# EAGLE library part PA6H_GPS (library WCSMain)
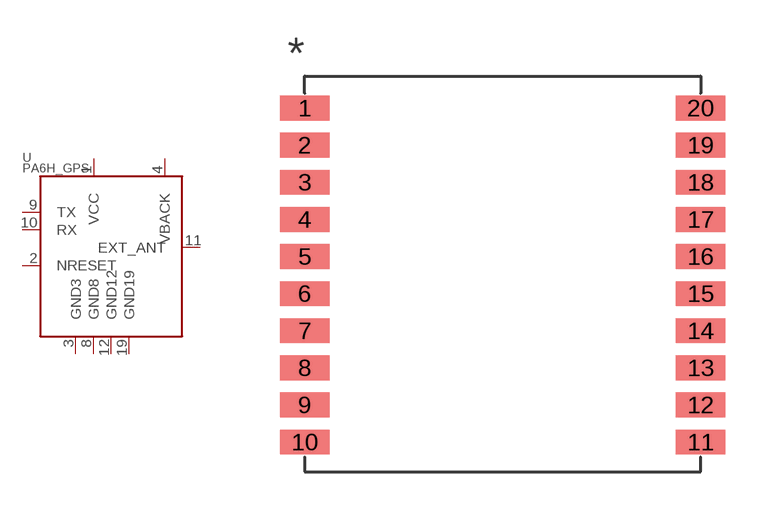
[diagram p12: symbol with the pads of FGPMMOPA6H; footprint FGPMMOPA6H]

Designator prefix -

## PA6H_GPS  [FGPMMOPA6H]
1  VCC  pas
2  NRESET  pas
3  GND3  pas
4  VBACK  pas
8  GND8  pas
9  TX  pas
10  RX  pas
11  EXT_ANT  pas
12  GND12  pas
19  GND19  pas

## Footprint FGPMMOPA6H (pad centres in mm)
smd 2 x 1: 1 -8,6.7; 2 -8,5.2; 3 -8,3.7; 4 -8,2.2; 5 -8,0.7; 6 -8,-0.8; 7 -8,-2.3; 8 -8,-3.8; 9 -8,-5.3; 10 -8,-6.8; 11 8,-6.8; 12 8,-5.3; 13 8,-3.8; 14 8,-2.3; 15 8,-0.8; 16 8,0.7; 17 8,2.2; 18 8,3.7; 19 8,5.2; 20 8,6.7